# EAGLE library part ICL762* (library maxim)
Dual Operational Amplifiers Source: http://datasheets.maxim-ic.com/en/ds/ICL7612-ICL764X.pdf
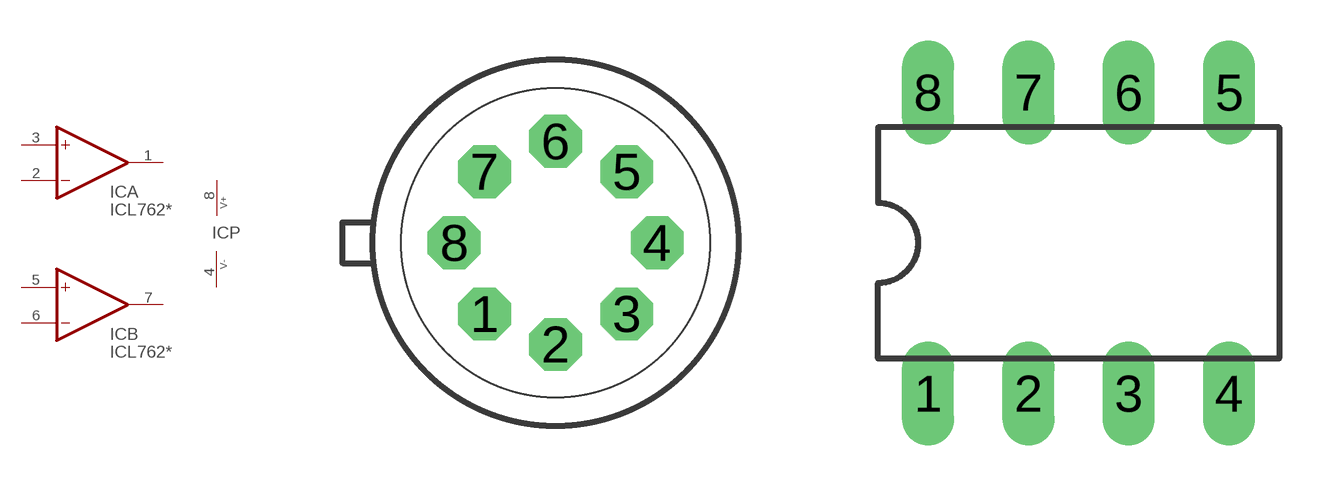
[diagram p344: symbol with the pads of TO99; footprints TO99, DIL08]

Designator prefix IC; gates A=OPAMP B=OPAMP P=PWR+-

## ICL762TV (OC_FARNELL: unknown; OC_NEWARK: unknown)  [TO99]
1  A:OUT  out
2  A:-IN  in
3  A:+IN  in
4  P:V-  pwr
5  B:+IN  in
6  B:-IN  in
7  B:OUT  out
8  P:V+  pwr

## ICL762PD (OC_FARNELL: unknown; OC_NEWARK: unknown)  [DIL08]
Pads as for TO99

## ICL762JD (OC_FARNELL: unknown; OC_NEWARK: unknown)  [DIL08]
Pads as for TO99

## Footprint TO99 (pad centres in mm)
TO-99
drill 0.813 octagon: 1 -1.778,-1.778; 2 0,-2.54; 3 1.778,-1.778; 4 2.54,0; 5 1.778,1.778; 6 0,2.54; 7 -1.778,1.778; 8 -2.54,0

## Footprint DIL08 (pad centres in mm)
Dual In Line Package
drill 0.813 long: 1 -3.81,-3.81; 2 -1.27,-3.81; 3 1.27,-3.81; 4 3.81,-3.81; 5 3.81,3.81; 6 1.27,3.81; 7 -1.27,3.81; 8 -3.81,3.81